# EAGLE library part IL300 (library KylePile)
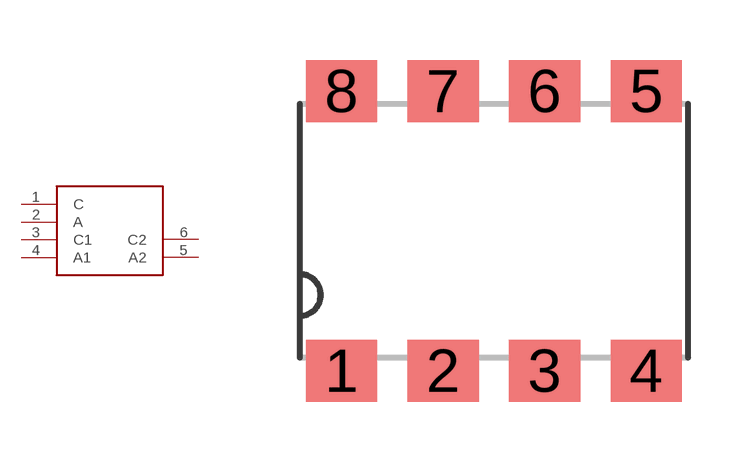
[diagram p8: symbol with the pads of SMD8; footprint SMD8]

Designator prefix -

## IL300  [SMD8]
1  C
2  A
3  C1
4  A1
5  A2
6  C2

## Footprint SMD8 (pad centres in mm)
SMD 4 Source: http://www.vishay.com/docs/83673/sfh618.pdf
smd 1.78 x 1.55: 1 -3.81,-3.5; 2 -1.27,-3.5; 3 1.27,-3.5; 4 3.81,-3.5; 5 3.81,3.5; 6 1.27,3.5; 7 -1.27,3.5; 8 -3.81,3.5